# Altium footprint library DIOM453X248X230L119X149.PcbLib: 1 footprints
Each footprint in its own frame and in the unit in brackets; x right, y up, seen from the top. Pads: shape width x height; smd on the part's side, far side on the other; paste and mask are expansions set on the pad; w line width, h text height; cw(c..) or ccw(c..) is an arc to the next point about the centre after c.
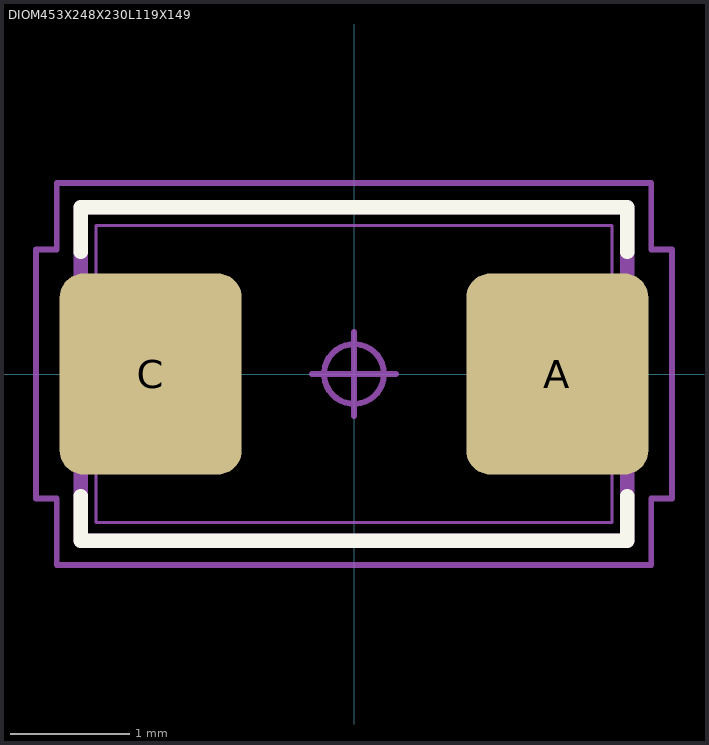
[diagram p0: the footprint, top view; thin cyan lines are the x and y axes]

## DIOM453X248X230L119X149 [mm] "Diode, Molded Body; 4.315 mm L X 2.485 mm W X 2.30 mm H body"
height 2.3
pads (2):
  rrect26% 1.52x1.68 smd: A(1.7,0) C(-1.7,0)
Top Overlay:
  lines w0.12: -2.285,-1.02 -2.285,-1.395 2.285,-1.395 2.285,-1.02 ; -2.285,1.02 -2.285,1.395 2.285,1.395 2.285,1.02
Mechanical 3:
  lines w0.12: -2.285,-1.395 2.285,-1.395 2.285,1.395 -2.285,1.395 -2.285,-1.395
Mechanical 5:
  lines w0.025: -2.265,-0.747 -2.265,0.747 -1.071,0.747 -1.071,-0.747 -2.265,-0.747 ; 1.071,-0.747 2.265,-0.747 2.265,0.747 1.071,0.747 1.071,-0.747
Mechanical 7:
  circle w0.05: c0,0 r0.25
  lines w0.025: -2.157,-1.242 2.157,-1.242 2.157,1.242 -2.157,1.242 -2.157,-1.242
  lines w0.05: -0.35,0 0.35,0 ; 0,-0.35 0,0.35 ; -2.66,-1.04 -2.485,-1.04 -2.485,-1.595 2.485,-1.595 2.485,-1.04 2.66,-1.04 2.66,1.04 2.485,1.04 2.485,1.595 -2.485,1.595 -2.485,1.04 -2.66,1.04 -2.66,-1.04
3D body "DIOM453X248X230L119X149.STEP": height 2.3, standoff 0, extent -2.265,-1.242 2.265,1.242